# Altium schematic symbol library Buzzer.SchLib: 2 symbols
Pins are listed as number, name and electrical type; pins without a type are passive.

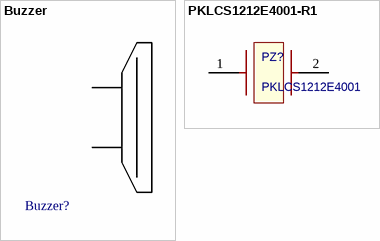
[diagram p0: symbols Buzzer to PKLCS1212E4001-R1]

## Buzzer
designator Buzzer?  (value not drawn)
footprint Buzzer
pins: 1, 2

## PKLCS1212E4001-R1
designator PZ?, comment PKLCS1212E4001
Small, thin and lightwight. High sound pressure level, min 75dB for 3Vp-p, 4kHz, square wave, 10sm.; Manufacture: muRata; Part number: PKLCS1212E4001-R1
footprint PKLCS1212E4001 (Murata piezoelectric sound component, 2-Leads, Body 12,00x12,00mm, IPC Medium Density)
pins: 1, 2